# EAGLE library part CBT16211 (library busswitch)
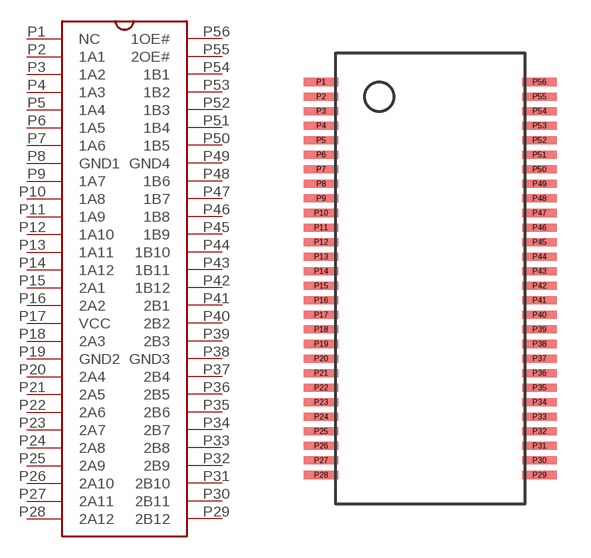
[diagram p2: symbol with the pads of SSOP56; footprint SSOP56]

Designator prefix -

## CBT16211  [SSOP56]
P1  NC  nc
P2  1A1
P3  1A2
P4  1A3
P5  1A4
P6  1A5
P7  1A6
P8  GND1  pwr
P9  1A7
P10  1A8
P11  1A9
P12  1A10
P13  1A11
P14  1A12
P15  2A1
P16  2A2
P17  VCC  pwr
P18  2A3
P19  GND2  pwr
P20  2A4
P21  2A5
P22  2A6
P23  2A7
P24  2A8
P25  2A9
P26  2A10
P27  2A11
P28  2A12
P29  2B12
P30  2B11
P31  2B10
P32  2B9
P33  2B8
P34  2B7
P35  2B6
P36  2B5
P37  2B4
P38  GND3  pwr
P39  2B3
P40  2B2
P41  2B1
P42  1B12
P43  1B11
P44  1B10
P45  1B9
P46  1B8
P47  1B7
P48  1B6
P49  GND4  pwr
P50  1B5
P51  1B4
P52  1B3
P53  1B2
P54  1B1
P55  2OE#  in
P56  1OE#  in

## Footprint SSOP56 (pad centres in mm)
smd 1.5 x 0.35: P1 -4.763,8.572; P2 -4.763,7.938; P3 -4.763,7.303; P4 -4.763,6.668; P5 -4.763,6.032; P6 -4.763,5.397; P7 -4.763,4.763; P8 -4.763,4.128; P9 -4.763,3.493; P10 -4.763,2.857; P11 -4.763,2.223; P12 -4.763,1.587; P13 -4.763,0.953; P14 -4.763,0.318; P15 -4.763,-0.318; P16 -4.763,-0.953; P17 -4.763,-1.587; P18 -4.763,-2.223; P19 -4.763,-2.857; P20 -4.763,-3.493; P21 -4.763,-4.128; P22 -4.763,-4.763; P23 -4.763,-5.397; P24 -4.763,-6.032; P25 -4.763,-6.668; P26 -4.763,-7.303; P27 -4.763,-7.938; P28 -4.763,-8.572; P29 4.763,-8.572; P30 4.763,-7.938; P31 4.763,-7.303; P32 4.763,-6.668; P33 4.763,-6.032; P34 4.763,-5.397; P35 4.763,-4.763; P36 4.763,-4.128; P37 4.763,-3.493; P38 4.763,-2.857; P39 4.763,-2.223; P40 4.763,-1.587; P41 4.763,-0.953; P42 4.763,-0.318; P43 4.763,0.318; P44 4.763,0.953; P45 4.763,1.587; P46 4.763,2.223; P47 4.763,2.857; P48 4.763,3.493; P49 4.763,4.128; P50 4.763,4.763; P51 4.763,5.397; P52 4.763,6.032; P53 4.763,6.668; P54 4.763,7.303; P55 4.763,7.938; P56 4.763,8.572